# EAGLE library part MICROCHIP_MCP3427-E-UN (library Upverter Library)
CON-ADC-MCP3427-10
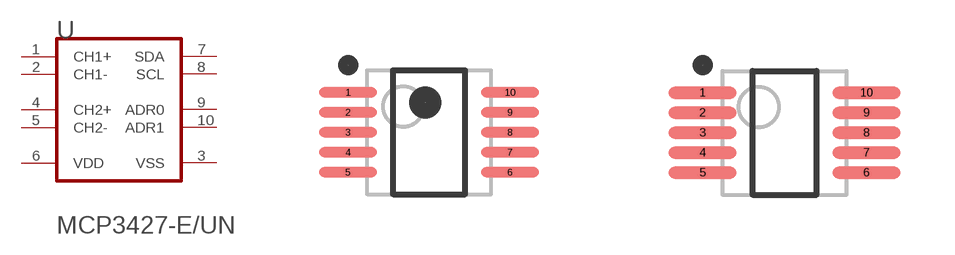
[diagram p0: symbol with the pads of MICROCHIP_MCP3427-E-UN_0; footprints MICROCHIP_MCP3427-E-UN_0, MICROCHIP_MCP3427-E-UN_1]

Designator prefix U

## MICROCHIP_MCP3427-E-UNMICROCHIP_MCP3427-E-UN_0_0 (Component_Link_1_Description: Manufacturer URL; Component_Link_1_URL: http://www.microchip.com/; Component_Link_3_Description: Package Specification; Component_Link_3_URL: http://www.microchip.com/stellent/groups/techpub_sg/documents/packagingspec/en012702.pdf; Datasheet_Version: revA, Dec-2009; MF: Microchip; MPN: MCP3427-E/UN; Package_Description: 10-Lead Plastic Micro Small Outline Package (UN) [MSOP]; Package_Version: revBB, Aug-2009; ciiva_ids: 1029210; datasheet: http://ww1.microchip.com/downloads/en/DeviceDoc/22226a.pdf; footprint_variant_name_0: Level C; footprint_variant_name_1: Level B; footprint_variant_name_2: Level A; import_ts: 1521848675; imported: yes; imported_from: vault; package: MSOP-UN10; pin_0_0_2_inside_edge: clock; prefix: U; release_date: 1331949051; vault_guid: A68823D5-815D-456C-A47E-4251F2B2754A; vault_revision: E4767321-FC88-4F77-9C9C-64A9666F4DA4)  [MICROCHIP_MCP3427-E-UN_0]
1  CH1+  in
2  CH1-  in
3  VSS  pwr
4  CH2+  in
5  CH2-  in
6  VDD  pwr
7  SDA
8  SCL  in
9  ADR0  pas
10  ADR1  pas

## MICROCHIP_MCP3427-E-UNMICROCHIP_MCP3427-E-UN_0_1 (Component_Link_1_Description: Manufacturer URL; Component_Link_1_URL: http://www.microchip.com/; Component_Link_3_Description: Package Specification; Component_Link_3_URL: http://www.microchip.com/stellent/groups/techpub_sg/documents/packagingspec/en012702.pdf; Datasheet_Version: revA, Dec-2009; MF: Microchip; MPN: MCP3427-E/UN; Package_Description: 10-Lead Plastic Micro Small Outline Package (UN) [MSOP]; Package_Version: revBB, Aug-2009; ciiva_ids: 1029210; datasheet: http://ww1.microchip.com/downloads/en/DeviceDoc/22226a.pdf; footprint_variant_name_0: Level C; footprint_variant_name_1: Level B; footprint_variant_name_2: Level A; import_ts: 1521848675; imported: yes; imported_from: vault; package: MSOP-UN10; pin_0_0_2_inside_edge: clock; prefix: U; release_date: 1331949051; vault_guid: A68823D5-815D-456C-A47E-4251F2B2754A; vault_revision: E4767321-FC88-4F77-9C9C-64A9666F4DA4)  [MICROCHIP_MCP3427-E-UN_1]
Pads as for MICROCHIP_MCP3427-E-UN_0

## MICROCHIP_MCP3427-E-UNMICROCHIP_MCP3427-E-UN_0_2 (Component_Link_1_Description: Manufacturer URL; Component_Link_1_URL: http://www.microchip.com/; Component_Link_3_Description: Package Specification; Component_Link_3_URL: http://www.microchip.com/stellent/groups/techpub_sg/documents/packagingspec/en012702.pdf; Datasheet_Version: revA, Dec-2009; MF: Microchip; MPN: MCP3427-E/UN; Package_Description: 10-Lead Plastic Micro Small Outline Package (UN) [MSOP]; Package_Version: revBB, Aug-2009; ciiva_ids: 1029210; datasheet: http://ww1.microchip.com/downloads/en/DeviceDoc/22226a.pdf; footprint_variant_name_0: Level C; footprint_variant_name_1: Level B; footprint_variant_name_2: Level A; import_ts: 1521848675; imported: yes; imported_from: vault; package: MSOP-UN10; pin_0_0_2_inside_edge: clock; prefix: U; release_date: 1331949051; vault_guid: A68823D5-815D-456C-A47E-4251F2B2754A; vault_revision: E4767321-FC88-4F77-9C9C-64A9666F4DA4)  [MICROCHIP_MCP3427-E-UN_2]
Pads as for MICROCHIP_MCP3427-E-UN_0

## Footprint MICROCHIP_MCP3427-E-UN_0 (pad centres in mm)
CON-ADC-MCP3427-10
smd 1.45 x 0.25: 1 -2.025,1; 2 -2.025,0.5; 3 -2.025,0; 4 -2.025,-0.5; 5 -2.025,-1; 6 2.025,-1; 7 2.025,-0.5; 8 2.025,0; 9 2.025,0.5; 10 2.025,1

## Footprint MICROCHIP_MCP3427-E-UN_1 (pad centres in mm)
CON-ADC-MCP3427-10
smd 1.7 x 0.3: 1 -2.05,1; 2 -2.05,0.5; 3 -2.05,0; 4 -2.05,-0.5; 5 -2.05,-1; 6 2.05,-1; 7 2.05,-0.5; 8 2.05,0; 9 2.05,0.5; 10 2.05,1

## Footprint MICROCHIP_MCP3427-E-UN_2 (pad centres in mm)
CON-ADC-MCP3427-10
smd 2 x 0.3: 1 -2.1,1; 2 -2.1,0.5; 3 -2.1,0; 4 -2.1,-0.5; 5 -2.1,-1; 6 2.1,-1; 7 2.1,-0.5; 8 2.1,0; 9 2.1,0.5; 10 2.1,1